# Altium schematic symbol library MCP1755T.SchLib: 1 symbol
Pins are listed as number, name and electrical type; pins without a type are passive.

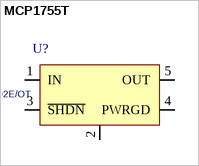
[diagram p0: symbol MCP1755T]

## MCP1755T
designator U?, comment MCP1755T-3302E/OT
PDF: http://www.microchip.com/mymicrochip/filehandler.aspx?ddocname=en560605; BUY_LINK: http://www.digikey.com/product-detail/en/MCP1755T-3302E%2FOT/MCP1755T-3302E%2FOTCT-ND/4484880; ID: MCP1755T-3302E/OT; PRICE: 0.61000
footprint SOT23-5
pins: 1 IN, 2 GND, 3 ~{SHDN}, 4 PWRGD, 5 OUT